# EAGLE library part CON5X2 (library borkedlabs-connectors)
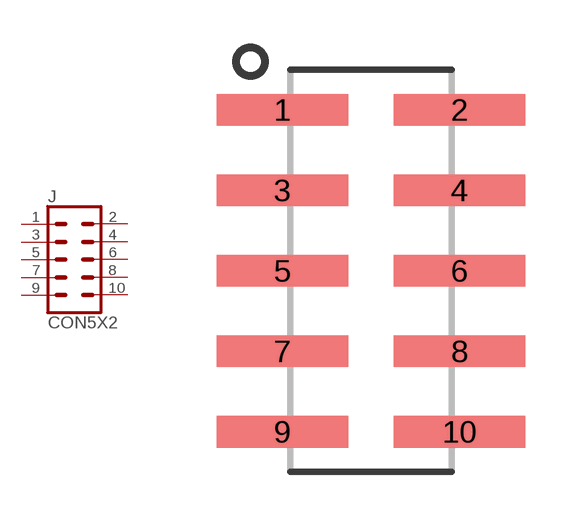
[diagram p8: symbol with the pads of 5X2_0.1_HEADER; footprint 5X2_0.1_HEADER]

Designator prefix J

## CON5X2-SMT  [5X2_0.1_HEADER]
1  1  pas
2  2  pas
3  3  pas
4  4  pas
5  5  pas
6  6  pas
7  7  pas
8  8  pas
9  9  pas
10  10  pas

## Footprint 5X2_0.1_HEADER (pad centres in mm)
0.1" Header, 2 rows x 5 pins, Surface Mount Standard type
smd 4.15 x 1: 1 -2.794,5.08; 2 2.794,5.08; 3 -2.794,2.54; 4 2.794,2.54; 5 -2.794,0; 6 2.794,0; 7 -2.794,-2.54; 8 2.794,-2.54; 9 -2.794,-5.08; 10 2.794,-5.08